# EAGLE library part ATTINY84 (library MicroControl)
Atmel 14-pin 2/4/8kB flash uC
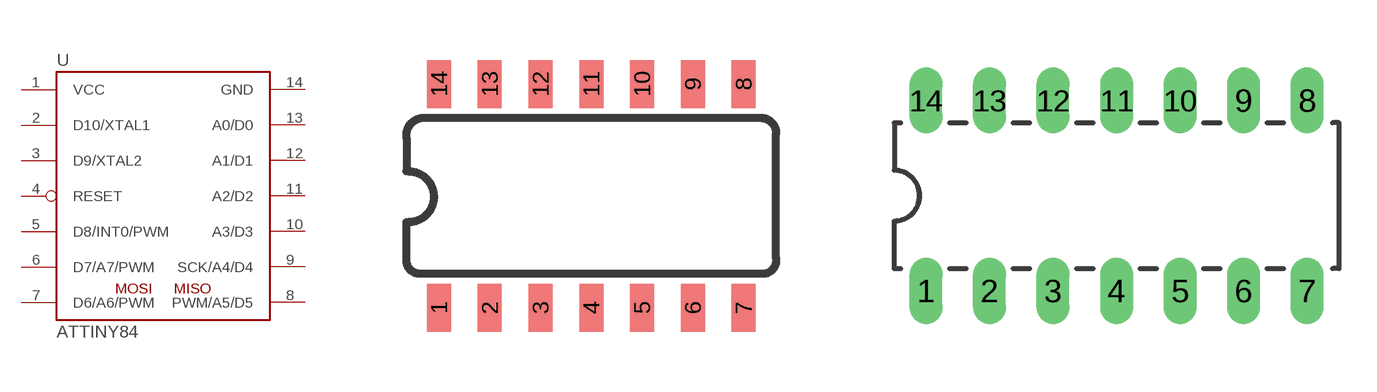
[diagram p2: symbol with the pads of SO14; footprints SO14, DIL14]

Designator prefix -

## ATTINY84 (PROD_ID: IC-11285)  [SO14]
1  VCC
2  D10/XTAL1
3  D9/XTAL2
4  RESET
5  D8/INT0/PWM
6  D7/A7/PWM
7  D6/A6/PWM
8  PWM/A5/D5
9  SCK/A4/D4
10  A3/D3
11  A2/D2
12  A1/D1
13  A0/D0
14  GND

## ATTINY84ATTINY84-20PU  [DIL14]
Pads as for SO14

## ATTINY84ATTINY84-20MU  [QFN20]
1  SCK/A4/D4
2  A3/D3
3  A2/D2
4  A1/D1
5  A0/D0
8  GND
9  VCC
11  D10/XTAL1
12  D9/XTAL2
13  RESET
14  D8/INT0/PWM
15  D7/A7/PWM
16  D6/A6/PWM
20  PWM/A5/D5

## Footprint SO14 (pad centres in mm)
smd 0.6 x 1.2: 1 -3.81,-2.8; 2 -2.54,-2.8; 3 -1.27,-2.8; 4 0,-2.8; 5 1.27,-2.8; 6 2.54,-2.8; 7 3.81,-2.8; 8 3.81,2.8; 9 2.54,2.8; 10 1.27,2.8; 11 0,2.8; 12 -1.27,2.8; 13 -2.54,2.8; 14 -3.81,2.8

## Footprint DIL14 (pad centres in mm)
drill 0.813 long: 1 -8.89,-3.81; 2 -6.35,-3.81; 3 -3.81,-3.81; 4 -1.27,-3.81; 5 1.27,-3.81; 6 3.81,-3.81; 7 6.35,-3.81; 8 6.35,3.81; 9 3.81,3.81; 10 1.27,3.81; 11 -1.27,3.81; 12 -3.81,3.81; 13 -6.35,3.81; 14 -8.89,3.81

## Footprint QFN20 (pad centres in mm)
smd 1 x 1: 0 0,0
smd 0.65 x 0.3: 1 -1.9,1; 2 -1.9,0.5; 3 -1.9,0; 4 -1.9,-0.5; 5 -1.9,-1; 11 1.9,-1; 12 1.9,-0.5; 13 1.9,0; 14 1.9,0.5; 15 1.9,1
smd 0.3 x 0.65: 6 -1,-1.9; 7 -0.5,-1.9; 8 0,-1.9; 9 0.5,-1.9; 10 1,-1.9; 16 1,1.9; 17 0.5,1.9; 18 0,1.9; 19 -0.5,1.9; 20 -1,1.9